# EAGLE library part TPIC6595 (library halcyonmod_DigitalIC)
TPIC6595 - Power logic Shift Register
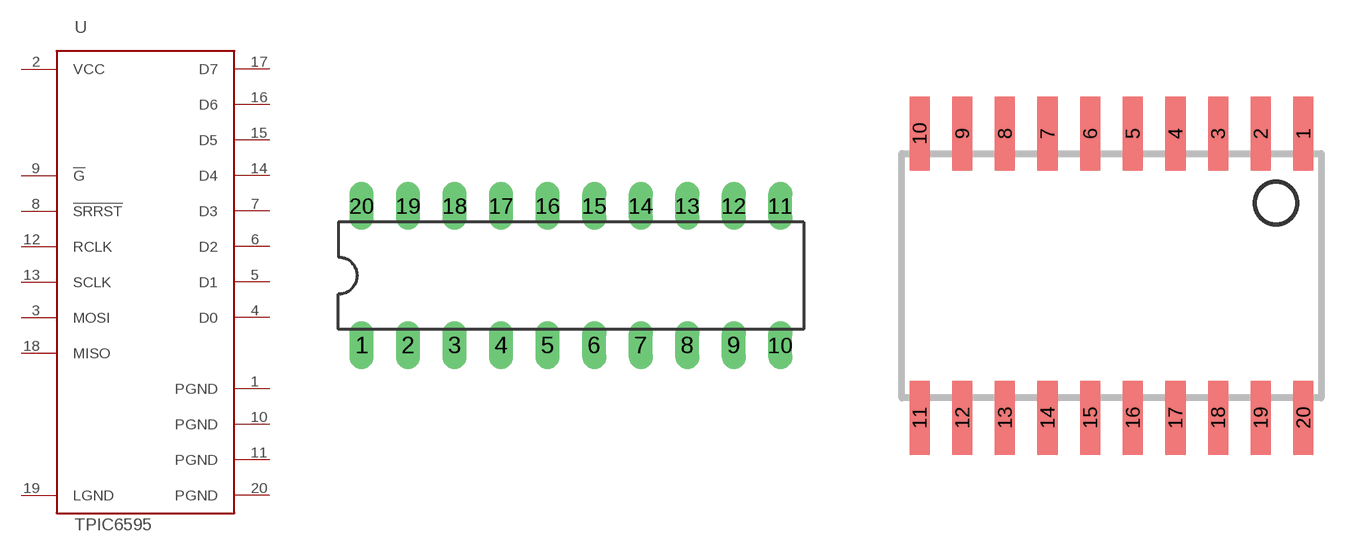
[diagram p0: symbol with the pads of DIL20; footprints DIL20, SOIC-20]

Designator prefix -

## TPIC6595N  [DIL20]
1  PGND  pwr
2  VCC  pwr
3  MOSI
4  D0  out
5  D1  out
6  D2  out
7  D3  out
8  !SRRST!
9  !G!
10  PGND  pwr
11  PGND  pwr
12  RCLK
13  SCLK
14  D4  out
15  D5  out
16  D6  out
17  D7  out
18  MISO
19  LGND  pwr
20  PGND  pwr

## TPIC6595DWR  [SOIC-20]
Pads as for DIL20

## Footprint DIL20 (pad centres in mm)
drill 0.813 long: 1 -10.16,-3.81; 2 -7.62,-3.81; 3 -5.08,-3.81; 4 -2.54,-3.81; 5 0,-3.81; 6 2.54,-3.81; 7 5.08,-3.81; 8 7.62,-3.81; 9 10.16,-3.81; 10 12.7,-3.81; 11 12.7,3.81; 12 10.16,3.81; 13 7.62,3.81; 14 5.08,3.81; 15 2.54,3.81; 16 0,3.81; 17 -2.54,3.81; 18 -5.08,3.81; 19 -7.62,3.81; 20 -10.16,3.81

## Footprint SOIC-20 (pad centres in mm)
smd 0.6 x 2.2: 1 5.715,4.235; 2 4.445,4.235; 3 3.175,4.235; 4 1.905,4.235; 5 0.635,4.235; 6 -0.635,4.235; 7 -1.905,4.235; 8 -3.175,4.235; 9 -4.445,4.235; 10 -5.715,4.235; 11 -5.715,-4.235; 12 -4.445,-4.235; 13 -3.175,-4.235; 14 -1.905,-4.235; 15 -0.635,-4.235; 16 0.635,-4.235; 17 1.905,-4.235; 18 3.175,-4.235; 19 4.445,-4.235; 20 5.715,-4.235